# Altium schematic symbol library GRM21BR71A106KA73L.SchLib: 1 symbol
Pins are listed as number, name and electrical type; pins without a type are passive.

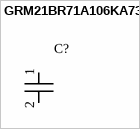
[diagram p0: symbol GRM21BR71A106KA73L]

## GRM21BR71A106KA73L
designator C?
Manufacturer_Name: Murata; Manufacturer_Part_Number: GRM21BR71A106KA73L
pins: 1, 2